# EAGLE library part 2X05 (library pimoroni-connectors)
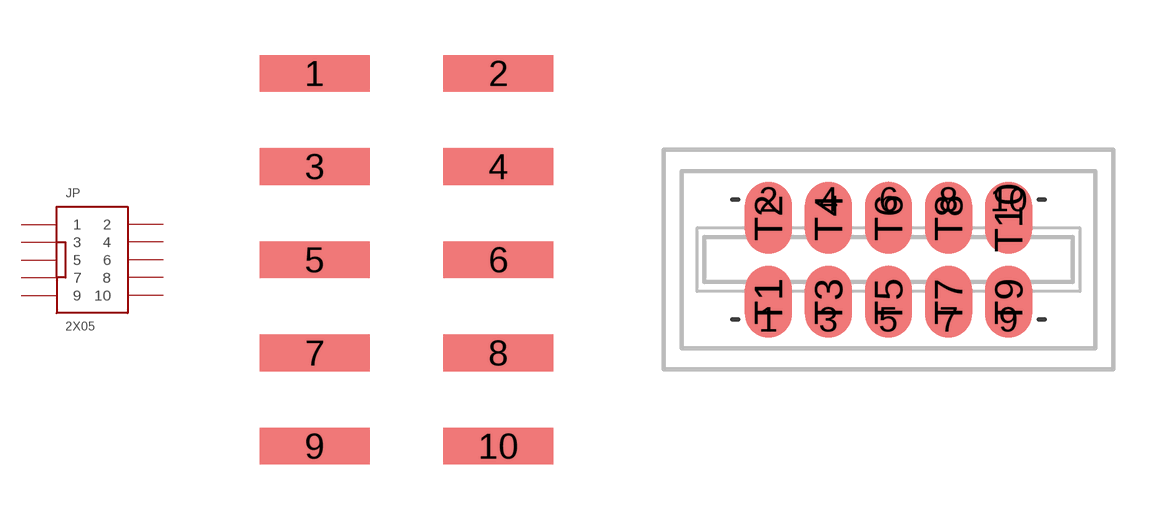
[diagram p14: symbol with the pads of 2X05_SMT; footprints 2X05_SMT, 2X05_EDGE]

Designator prefix JP

## 2X05_SMT  [2X05_SMT]
1  1
2  2
3  3
4  4
5  5
6  6
7  7
8  8
9  9
10  10

## 2X05_EDGE  [2X05_EDGE]
1  1
2  2
3  3
4  4
5  5
6  6
7  7
8  8
9  9
10  10
T1  1
T2  2
T3  3
T4  4
T5  5
T6  6
T7  7
T8  8
T9  9
T10  10

## 2X05_EDGE_SMALL_PADS  [2X05_EDGE_SMALL_PADS]
Pads as for 2X05_EDGE

## 2X05DNP  [2X05_EDGE_DNP]
Pads as for 2X05_SMT

## 2X05_SMT_SHROUDED_IDC  [2X05_SMT_SHROUDED]
Pads as for 2X05_SMT

## Footprint 2X05_SMT (pad centres in mm)
smd 3 x 1: 1 -2.5,5.08; 2 2.5,5.08; 3 -2.5,2.54; 4 2.5,2.54; 5 -2.5,0; 6 2.5,0; 7 -2.5,-2.54; 8 2.5,-2.54; 9 -2.5,-5.08; 10 2.5,-5.08

## Footprint 2X05_EDGE (pad centres in mm)
drill 1: 1 -5.08,-2.54; 2 -5.08,2.54; 3 -2.54,-2.54; 4 -2.54,2.54; 5 0,-2.54; 6 0,2.54; 7 2.54,-2.54; 8 2.54,2.54; 9 5.08,-2.54; 10 5.08,2.54
smd 2 x 3.05: T1 -5.08,-1.775; T2 -5.08,1.775; T3 -2.54,-1.775; T4 -2.54,1.775; T5 0,-1.775; T6 0,1.775; T7 2.54,-1.775; T8 2.54,1.775; T9 5.08,-1.775; T10 5.08,1.775

## Footprint 2X05_EDGE_SMALL_PADS (pad centres in mm)
drill 1: 1 -5.08,-2.54; 2 -5.08,2.54; 3 -2.54,-2.54; 4 -2.54,2.54; 5 0,-2.54; 6 0,2.54; 7 2.54,-2.54; 8 2.54,2.54; 9 5.08,-2.54; 10 5.08,2.54
smd 2 x 2.2: T1 -5.08,-2.35; T2 -5.08,2.35; T3 -2.54,-2.35; T4 -2.54,2.35; T5 0,-2.35; T6 0,2.35; T7 2.54,-2.35; T8 2.54,2.35; T9 5.08,-2.35; T10 5.08,2.35

## Footprint 2X05_EDGE_DNP (pad centres in mm)
drill 1: 1 -5.08,-2.54; 2 -5.08,2.54; 3 -2.54,-2.54; 4 -2.54,2.54; 5 0,-2.54; 6 0,2.54; 7 2.54,-2.54; 8 2.54,2.54; 9 5.08,-2.54; 10 5.08,2.54

## Footprint 2X05_SMT_SHROUDED (pad centres in mm)
smd 4 x 1: 1 -3,5.08; 2 3,5.08; 3 -3,2.54; 4 3,2.54; 5 -3,0; 6 3,0; 7 -3,-2.54; 8 3,-2.54; 9 -3,-5.08; 10 3,-5.08